# Altium schematic symbol library adafruit_metro_mini.SCHLIB: 1 symbol
Pins are listed as number, name and electrical type; pins without a type are passive.

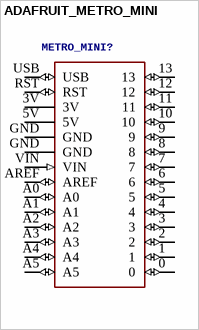
[diagram p0: symbol ADAFRUIT_METRO_MINI]

## ADAFRUIT_METRO_MINI
designator METRO_MINI?
GateName_1: G$1; SymbolName_1: ADAFRUIT_METRO_MINI; LibraryName: adafruit_metro_mini; DeviceSetName: ADAFRUIT_METRO_MINI; Package: ADAFRUIT_METRO_MINI
footprint ADAFRUIT_METRO_MINI
pins: 0 (io), 1 (io), 2 (io), 3 (io), 3V (power), 4 (io), 5 (io), 5V (power), 6 (io), 7 (io), 8 (io), 9 (io), 10 (io), 11 (io), 12 (io), 13 (io), A0 (io), A1 (io), A2 (io), A3 (io), A4 (io), A5 (io), AREF (io), GND (power), GND (power), RST (io), USB (io), VIN (in)